# EAGLE library part MP42100 (library CC2530_PCB_TL - Backup Copy - DO NOT EDIT)
Digital Potentiometer 100K 2CH SPI 14-SOIC MCP42100-I/SL-ND
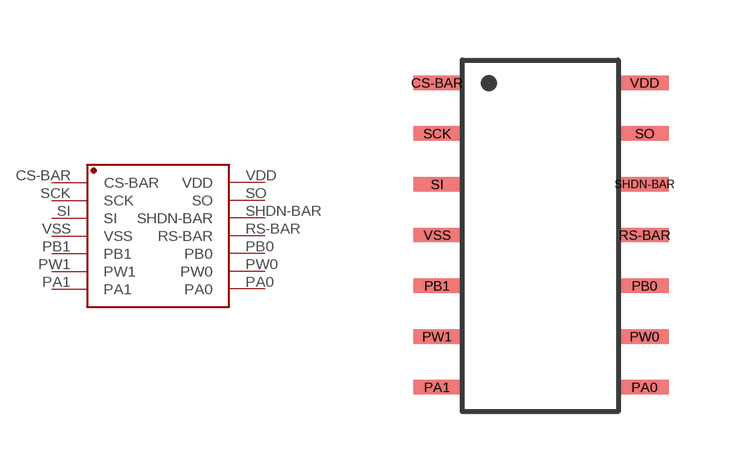
[diagram p10: symbol with the pads of MP42100; footprint MP42100]

Designator prefix -

## MP42100  [MP42100]
CS-BAR  CS-BAR
PA0  PA0
PA1  PA1
PB0  PB0
PB1  PB1
PW0  PW0
PW1  PW1
RS-BAR  RS-BAR
SCK  SCK
SHDN-BAR  SHDN-BAR
SI  SI
SO  SO
VDD  VDD
VSS  VSS

## Footprint MP42100 (pad centres in mm)
Digital Potentiometer 100K 2CH SPI 14-SOIC MCP42100-I/SL-ND
smd 1.2 x 0.36: CS-BAR -2.595,3.81; PA0 2.595,-3.81; PA1 -2.595,-3.81; PB0 2.595,-1.27; PB1 -2.595,-1.27; PW0 2.595,-2.54; PW1 -2.595,-2.54; RS-BAR 2.595,0; SCK -2.595,2.54; SHDN-BAR 2.595,1.27; SI -2.595,1.27; SO 2.595,2.54; VDD 2.595,3.81; VSS -2.595,0